# Altium footprint library linear.PCBLIB: 119 footprints (part 7 of 8)
Each footprint in its own frame and in the unit in brackets; x right, y up, seen from the top. Pads: shape width x height; smd on the part's side, far side on the other; paste and mask are expansions set on the pad; w line width, h text height; cw(c..) or ccw(c..) is an arc to the next point about the centre after c.
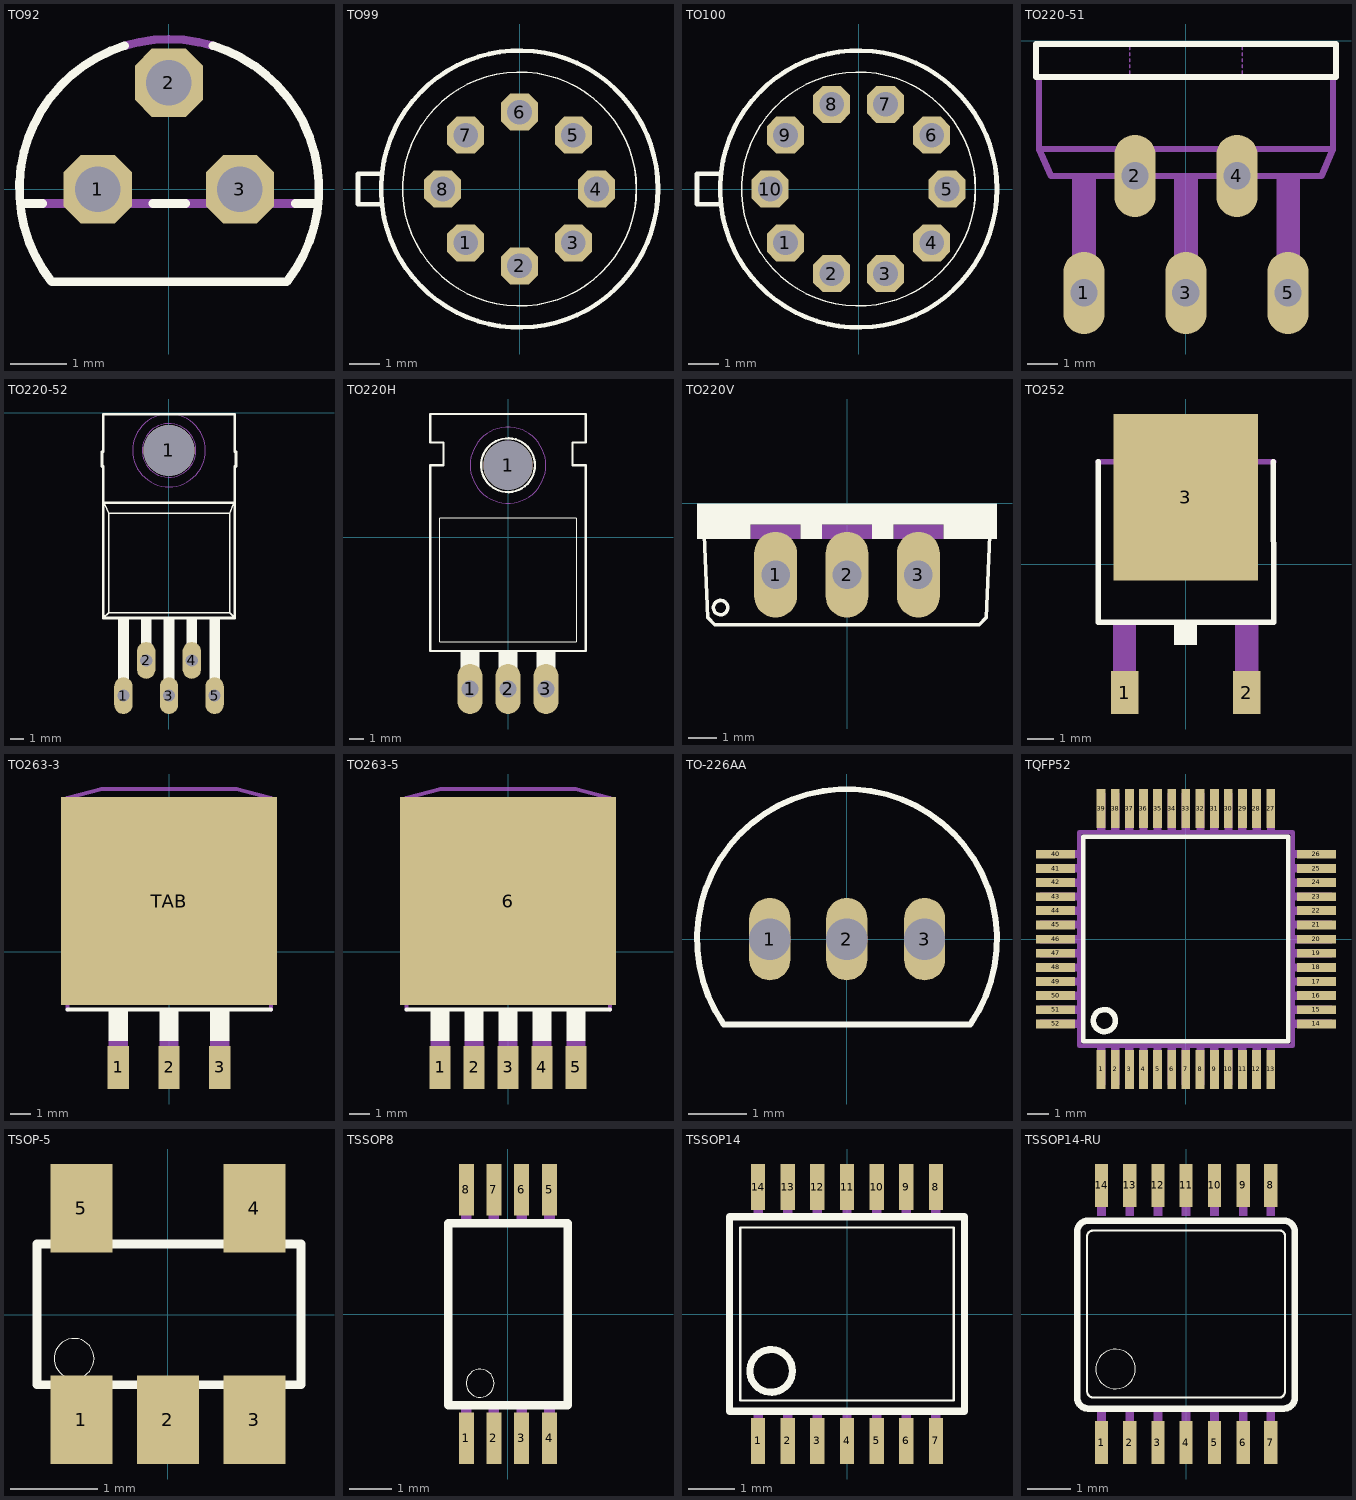
[diagram p6: the footprints below, top view; thin cyan lines are the x and y axes]

## TO92 [mil]
pads (3):
  oct 48x48 hole 32: 1(-50,0) 2(0,75) 3(50,0)
Top Overlay:
  lines w6: -104.53,-10 -88.74,-10 ; -30.98,101 ccw(c0.21,0.33) -82.48,-65 83,-65 ccw(c0.06,0.16) 31,101 ; -11.26,-10 12,-10 ; 89,-10 105,-10
Mechanical 16:
  lines w6: -88.74,-10 -11.26,-10 ; -30.96,101 cw(c0.02,0.61) 31,101 ; 12,-10 89,-10

## TO99 [mil]
pads (8):
  oct 48x48 hole 32: 1(-70,-70) 2(0,-100) 3(70,-70) 4(100,0) 5(70,70) 6(0,100) 7(-70,70) 8(-100,0)
Top Overlay:
  circle w6: c0,0 r180
  circle w2: c0,0 r152
  lines w6: -180,-20 -210,-20 -210,20 -180,20

## TO100 [mil]
pads (10):
  oct 48x48 hole 32: 1(-95,-70) 2(-35,-110) 3(35,-110) 4(95,-70) 5(115,0) 6(95,70) 7(35,110) 8(-35,110) 9(-95,70) 10(-115,0)
Top Overlay:
  circle w6: c0,0 r180
  circle w2: c0,0 r152
  lines w6: -180,-20 -210,-20 -210,20 -180,20

## TO220-51 [mil]
pads (5):
  oval 54x108 hole 36: 1(-133.86,-330.71) 2(-66.93,-177.17) 3(0,-330.71) 4(67,-177.17) 5(134,-330.71)
Top Overlay:
  lines w8: -196.85,-47.24 -196.85,-3.94 197,-3.94 197,-47.24 -196.85,-47.24
Mechanical 16:
  rectangle: -149.61,-338.58 -118.11,-295.28
  rectangle: -15.75,-338.58 16,-295.28
  rectangle: 119,-338.58 150,-295.28
  rectangle: -149.61,-295.28 -118.11,-177.17
  rectangle: -15.75,-295.28 16,-177.17
  rectangle: 119,-295.28 150,-177.17
  rectangle: -82.68,-185.04 -51.18,-177.17
  rectangle: 52,-185.04 83,-177.17
  lines w2: -73.62,-46.06 -73.62,-39.37 ; -73.62,-35.43 -73.62,-31.5 ; -73.62,-27.56 -73.62,-23.62 ; -73.62,-19.68 -73.62,-15.75 ; -73.62,-11.81 -73.62,-7.87 ; 74,-46.06 74,-39.37 ; 74,-35.43 74,-31.5 ; 74,-27.56 74,-23.62 ; 74,-19.68 74,-15.75 ; 74,-11.81 74,-7.87
  lines w8: -192.91,-47.24 -192.91,-141.73 ; 193,-47.24 193,-141.73 ; -192.91,-141.73 -177.17,-177.17 178,-177.17 193,-141.73 ; -192.91,-141.73 193,-141.73

## TO220-52 [mil]
pads (6):
  oval 54x108 hole 36: 1(-133.86,-830.71) 2(-66.93,-727.17) 3(0,-830.71) 4(67,-727.17) 5(134,-830.71)
  round 150 hole 150: 1(0,-110.24)
Top Overlay:
  rectangle: -149.61,-791.34 -118.11,-602.36
  rectangle: -82.68,-688.98 -51.18,-602.36
  rectangle: -15.75,-791.34 16,-602.36
  rectangle: 52,-688.98 83,-602.36
  rectangle: 119,-791.34 150,-602.36
  lines w4: -192.91,-602.36 -177.17,-586.61 ; -188.98,-267.72 -177.17,-295.28 ; 189,-267.72 178,-295.28 ; 193,-602.36 178,-586.61 ; -177.17,-586.61 178,-586.61 ; -177.17,-586.61 -177.17,-295.28 ; -177.17,-295.28 178,-295.28 ; 178,-586.61 178,-295.28
  lines w8: -196.85,-157.48 -196.85,-114.17 ; -192.91,-157.48 -192.91,-263.78 ; -192.91,-114.17 -192.91,-3.94 193,-3.94 193,-114.17 ; 193,-157.48 193,-263.78 ; 197,-157.48 197,-114.17 ; -192.91,-263.78 -192.91,-602.36 193,-602.36 193,-263.78 ; -192.91,-263.78 193,-263.78
Mechanical 8:
  circle w0: c0,-110.24 r79
Mechanical 9:
  circle w0: c0,-110.24 r79
Mechanical 10:
  circle w0: c0,-110.24 r107
Mechanical 16:
  rectangle: -149.61,-838.58 -118.11,-791.34
  rectangle: -82.68,-736.22 -51.18,-688.98
  rectangle: -15.75,-838.58 16,-791.34
  rectangle: 52,-736.22 83,-688.98
  rectangle: 119,-838.58 150,-791.34

## TO220H [mil]
pads (4):
  oval 66x132 hole 44: 1(-100,-400) 2(0,-400) 3(100,-400)
  round 130 hole 130: 1(0,190)
Top Overlay:
  circle w6: c0,190 r71
  rectangle: 85,-435 115,-410
  rectangle: -15,-435 15,-410
  rectangle: -115,-435 -85,-410
  rectangle: -125,-410 -75,-300
  rectangle: -25,-410 25,-300
  rectangle: 75,-410 125,-300
  lines w2: -180,-275 180,-275 180,50 -180,50 -180,-275
  lines w6: -205,-300 205,-300 205,190 170,190 170,250 205,250 205,325 -205,325 -205,250 -170,250 -170,190 -205,190 -205,-300
Mechanical 9:
  circle w0: c0,190 r100
Mechanical 10:
  circle w0: c0,190 r100

## TO220V [mil]
pads (3):
  oval 60x120 hole 40: 1(-100,-100) 2(0,-100) 3(100,-100)
Top Overlay:
  circle w5: c-177,-146 r10
  rectangle: -210,-30 210,0
  rectangle: -210,-50 -135,-30
  rectangle: -65,-50 -35,-30
  rectangle: 35,-50 65,-30
  rectangle: 135,-50 210,-30
  lines w5: -200,-45 -195,-160 -185,-170 185,-170 195,-160 200,-45
Mechanical 16:
  rectangle: -135,-50 -65,-30
  rectangle: -35,-50 35,-30
  rectangle: 65,-50 135,-30
  text "1" at -125,-125 h77.5
  text "2" at -25,-125 h77.5
  text "3" at 75,-125 h77.5

## TO252 [mil]
pads (3):
  rect 40x63 smd: 1(-89.76,-188.98) 2(90,-188.98)
  rect 213x245 smd: 3(0,99)
Top Overlay:
  rectangle: -17,-119 17,-89
  lines w8: -129,151 -129.02,-85 130,-85 129,151
Mechanical 16:
  rectangle: -107,-203 -73,-89
  rectangle: 73,-203 107,-89
  region: 0,0 10,0 10,10 0,10
  lines w8: -129.02,151 130,151 ; -101,155 -101,183 -83,201 83,201 101,183 101,155 -101,155

## TO263-3 [mil]
pads (4):
  rect 42x85 smd: 1(-100,-228) 2(0,-228) 3(100,-228)
  rect 426x410 smd: TAB(0,100)
Top Overlay:
  rectangle: -19,-176 19,-110
  rectangle: -119,-176 -81,-110
  rectangle: 81,-176 119,-110
  lines w8: -200.55,-113.39 201,-113.39
Mechanical 16:
  rectangle: -19,-260 19,-175
  rectangle: -119,-260 -81,-175
  rectangle: 81,-260 119,-175
  region: 0,0 10,0 10,10 0,10
  lines w8: -200.55,-113.39 -200.55,283 201,283 201,-113.39 ; -200.98,287 -200.98,303 -132.99,321 133,321 201,303 201,287 -200.98,287

## TO263-5 [mil]
pads (6):
  rect 42x85 smd: 1(-134,-228) 2(-67,-228) 3(0,-228) 4(67,-228) 5(134,-228)
  rect 426x410 smd: 6(0,100)
Top Overlay:
  rectangle: -153,-176 -115,-110
  rectangle: -86,-176 -48,-110
  rectangle: -19,-176 19,-110
  rectangle: 48,-176 86,-110
  rectangle: 115,-176 153,-110
  lines w8: -200.55,-113.39 201,-113.39
Mechanical 16:
  rectangle: -153,-260 -115,-175
  rectangle: -86,-260 -48,-175
  rectangle: -19,-260 19,-175
  rectangle: 48,-260 86,-175
  rectangle: 115,-260 153,-175
  region: 0,0 10,0 10,10 0,10
  lines w8: -200.55,-113.39 -200.55,283 201,283 201,-113.39 ; -200.98,287 -200.98,303 -132.99,321 133,321 201,303 201,287 -200.98,287

## TO-226AA [mil]
pads (3):
  oval 28x56 hole 28: 1(-52.36,0) 2(0,0) 3(53,0)
Top Overlay:
  lines w4: -83.66,-58.07 cw(c0.17,0.12) 84,-58.07 -83.66,-58.07

## TQFP52 [mil]
pads (52):
  rect 16x71 smd: 1(-153.54,-236.22) 2(-127.95,-236.22) 3(-102.36,-236.22) 4(-76.77,-236.22) 5(-51.18,-236.22) 6(-25.59,-236.22) 7(0,-236.22) 8(26,-236.22) 9(52,-236.22) 10(77,-236.22) 11(103,-236.22) 12(128,-236.22) 13(154,-236.22) 27(154,237) 28(128,237) 29(103,237) 30(77,237) 31(52,237) 32(26,237) 33(0,237) 34(-25.59,237) 35(-51.18,237) 36(-76.77,237) 37(-102.36,237) 38(-127.95,237) 39(-153.54,237)
  rect 71x16 smd: 14(237,-153.54) 15(237,-127.95) 16(237,-102.36) 17(237,-76.77) 18(237,-51.18) 19(237,-25.59) 20(237,0) 21(237,26) 22(237,52) 23(237,77) 24(237,103) 25(237,128) 26(237,154) 40(-236.22,154) 41(-236.22,128) 42(-236.22,103) 43(-236.22,77) 44(-236.22,52) 45(-236.22,26) 46(-236.22,0) 47(-236.22,-25.59) 48(-236.22,-51.18) 49(-236.22,-76.77) 50(-236.22,-102.36) 51(-236.22,-127.95) 52(-236.22,-153.54)
Top Overlay:
  circle w10: c-147.64,-147.64 r20
  lines w8: -185.83,-185.43 186,-185.43 186,186 -185.83,186 -185.83,-185.43
Mechanical 16:
  rectangle: -161.02,-264.57 -146.06,-194.88
  rectangle: -135.43,-264.57 -120.47,-194.88
  rectangle: -109.84,-264.57 -94.88,-194.88
  rectangle: -84.25,-264.57 -69.29,-194.88
  rectangle: -58.66,-264.57 -43.7,-194.88
  rectangle: -33.07,-264.57 -18.11,-194.88
  rectangle: -7.48,-264.57 8,-194.88
  rectangle: 19,-264.57 34,-194.88
  rectangle: 44,-264.57 59,-194.88
  rectangle: 70,-264.57 85,-194.88
  rectangle: 95,-264.57 110,-194.88
  rectangle: 121,-264.57 136,-194.88
  rectangle: 147,-264.57 162,-194.88
  rectangle: 195,-161.02 265,-146.06
  rectangle: 195,-135.43 265,-120.47
  rectangle: 195,-109.84 265,-94.88
  rectangle: 195,-84.25 265,-69.29
  rectangle: 195,-58.66 265,-43.7
  rectangle: 195,-33.07 265,-18.11
  rectangle: 195,-7.48 265,8
  rectangle: 195,19 265,34
  rectangle: 195,44 265,59
  rectangle: 195,70 265,85
  rectangle: 195,95 265,110
  rectangle: 195,121 265,136
  rectangle: 195,147 265,162
  rectangle: 147,195 162,265
  rectangle: 121,195 136,265
  rectangle: 95,195 110,265
  rectangle: 70,195 85,265
  rectangle: 44,195 59,265
  rectangle: 19,195 34,265
  rectangle: -7.48,195 8,265
  rectangle: -33.07,195 -18.11,265
  rectangle: -58.66,195 -43.7,265
  rectangle: -84.25,195 -69.29,265
  rectangle: -109.84,195 -94.88,265
  rectangle: -135.43,195 -120.47,265
  rectangle: -161.02,195 -146.06,265
  rectangle: -264.57,147 -194.88,162
  rectangle: -264.57,121 -194.88,136
  rectangle: -264.57,95 -194.88,110
  rectangle: -264.57,70 -194.88,85
  rectangle: -264.57,44 -194.88,59
  rectangle: -264.57,19 -194.88,34
  rectangle: -264.57,-7.48 -194.88,8
  rectangle: -264.57,-33.07 -194.88,-18.11
  rectangle: -264.57,-58.66 -194.88,-43.7
  rectangle: -264.57,-84.25 -194.88,-69.29
  rectangle: -264.57,-109.84 -194.88,-94.88
  rectangle: -264.57,-135.43 -194.88,-120.47
  rectangle: -264.57,-161.02 -194.88,-146.06
  lines w8: -193.31,-193.31 194,-193.31 194,194 -193.31,194 -193.31,-193.31

## TSOP-5 [mil]
pads (5):
  rect 28x40 smd: 1(-38.98,-47.24) 2(0,-47.24) 3(39,-47.24) 4(39,48) 5(-38.98,48)
Top Overlay:
  circle w0: c-42.32,-19.68 r9
  lines w4: -59.06,-31.5 60,-31.5 60,32 -59.06,32 -59.06,-31.5
Mechanical 16:
  rectangle: -47.24,33 -27.56,60
  rectangle: 28,33 48,60
  rectangle: 28,-59.06 48,-32.48
  rectangle: -9.84,-59.06 10,-32.48
  rectangle: -47.24,-59.06 -27.56,-32.48

## TSSOP8 [mil]
pads (8):
  rect 14x48 smd: 1(-38.39,-115.16) 2(-12.8,-115.16) 3(13,-115.16) 4(39,-115.16) 5(39,116) 6(13,116) 7(-12.8,116) 8(-38.39,116)
Top Overlay:
  circle w0: c-25.59,-63.98 r13
  lines w8: -55.12,-84.65 -55.12,85 56,85 56,-84.65 -55.12,-84.65
Mechanical 16:
  rectangle: -43.31,-125.98 -33.46,-86.61
  rectangle: -17.72,-125.98 -7.87,-86.61
  rectangle: 8,-125.98 18,-86.61
  rectangle: 34,-125.98 44,-86.61
  rectangle: 34,87 44,126
  rectangle: 8,87 18,126
  rectangle: -17.72,87 -7.87,126
  rectangle: -43.31,87 -33.46,126

## TSSOP14 [mil]
pads (14):
  rect 12x39 smd: 1(-75,-107) 2(-50,-107) 3(-25,-107) 4(0,-107) 5(25,-107) 6(50,-107) 7(75,-107) 8(75,107) 9(50,107) 10(25,107) 11(0,107) 12(-25,107) 13(-50,107) 14(-75,107)
Top Overlay:
  circle w6: c-64,-48 r18
  lines w2: -90,-73 90,-73 90,73 -90,73 -90,-73
  lines w6: -99,-82 99,-82 99,82 -99,82 -99,-82
Mechanical 16:
  rectangle: 71,83 79,116
  rectangle: 46,83 54,116
  rectangle: 21,83 29,116
  rectangle: -4,83 4,116
  rectangle: -29,83 -21,116
  rectangle: -54,83 -46,116
  rectangle: -79,83 -71,116
  rectangle: -79,-115 -71,-82
  rectangle: -54,-115 -46,-82
  rectangle: -29,-115 -21,-82
  rectangle: -4,-115 4,-82
  rectangle: 21,-115 29,-82
  rectangle: 46,-115 54,-82
  rectangle: 71,-115 79,-82

## TSSOP14-RU [mil]
pads (14):
  rect 12x39 smd: 1(-76.77,-116.84) 2(-51.18,-116.84) 3(-25.59,-116.84) 4(0,-116.84) 5(26,-116.84) 6(52,-116.84) 7(77,-116.84) 8(77,117) 9(52,117) 10(26,117) 11(0,117) 12(-25.59,117) 13(-51.18,117) 14(-76.77,117)
Top Overlay:
  circle w0: c-64,-49.97 r18
  lines w2: -90,-70.05 ccw(c-84.09,-70.05) -84.09,-75.95 85,-75.95 ccw(c84.55,-70.5) 90,-70.05 90,71 ccw(c85,71) 85,76 -84.09,76 ccw(c-84.55,70.55) -90,71 -90,-70.05
  lines w6: -99,-75.94 ccw(c-89,-75.94) -89,-85.94 89,-85.94 ccw(c89,-75.94) 99,-75.94 99,75 ccw(c89,75) 89,85 -89,85 ccw(c-89,75) -99,75 -99,-75.94
Mechanical 16:
  rectangle: -80.77,-125.98 -72.77,-88.58
  rectangle: -55.18,-125.98 -47.18,-88.58
  rectangle: -29.59,-125.98 -21.59,-88.58
  rectangle: -4,-125.98 4,-88.58
  rectangle: 22,-125.98 30,-88.58
  rectangle: 48,-125.98 56,-88.58
  rectangle: 73,-125.98 81,-88.58
  region: 81,126 73,126 73,89 81,89
  region: 56,126 48,126 48,89 56,89
  region: 30,126 22,126 22,89 30,89
  region: 4,126 -4,126 -4,89 4,89
  region: -21.59,126 -29.59,126 -29.59,89 -21.59,89
  region: -47.18,126 -55.18,126 -55.18,89 -47.18,89
  region: -72.77,126 -80.77,126 -80.77,89 -72.77,89